# EAGLE library part OBLDC_CONN (library open-bldc)
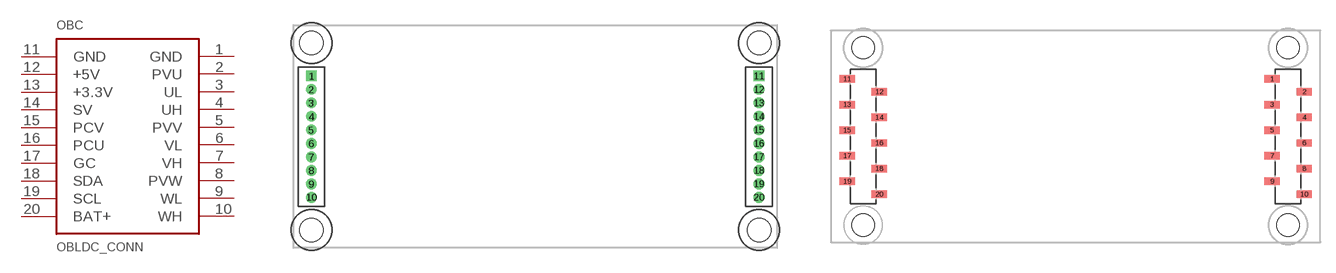
[diagram p20: symbol with the pads of OBLDC_CONN; footprints OBLDC_CONN, OBLDC_CONN_SMD]

Designator prefix OBC

## OBLDC_CONN-1.27MM  [OBLDC_CONN]
1  GND
2  PVU
3  UL
4  UH
5  PVV
6  VL
7  VH
8  PVW
9  WL
10  WH
11  GND
12  +5V
13  +3.3V
14  SV
15  PCV
16  PCU
17  GC
18  SDA
19  SCL
20  BAT+

## OBLDC_CONN-SMD  [OBLDC_CONN_SMD]
Pads as for OBLDC_CONN

## Footprint OBLDC_CONN (pad centres in mm)
drill 0.5 square: 1 1.685,16.2; 11 43.788,16.2
drill 0.5 round: 2 1.685,14.93; 3 1.685,13.66; 4 1.685,12.39; 5 1.685,11.12; 6 1.685,9.85; 7 1.685,8.58; 8 1.685,7.31; 9 1.685,6.04; 10 1.685,4.77; 12 43.788,14.93; 13 43.788,13.66; 14 43.788,12.39; 15 43.788,11.12; 16 43.788,9.85; 17 43.788,8.58; 18 43.788,7.31; 19 43.788,6.04; 20 43.788,4.77
hole 2.2 at 1.7,1.7
hole 2.2 at 1.7,19.3
hole 2.2 at 43.8,1.7
hole 2.2 at 43.8,19.3

## Footprint OBLDC_CONN_SMD (pad centres in mm)
smd 1.525 x 0.74: 1 43.727,16.2; 2 46.903,14.93; 3 43.727,13.66; 4 46.903,12.39; 5 43.727,11.12; 6 46.903,9.85; 7 43.727,8.58; 8 46.903,7.31; 9 43.727,6.04; 10 46.903,4.77; 11 1.624,16.2; 12 4.799,14.93; 13 1.624,13.66; 14 4.799,12.39; 15 1.624,11.12; 16 4.799,9.85; 17 1.624,8.58; 18 4.799,7.31; 19 1.624,6.04; 20 4.799,4.77
hole 2.2 at 45.3,1.7
hole 2.2 at 45.3,19.3
hole 2.2 at 3.2,1.7
hole 2.2 at 3.2,19.3